# EAGLE library part NCN5150DR2G (library Driver_Transceiver ICs)
IC TRANSCEIVER HALF 1/1 16SOIC Manufacturer's datasheet <https://www.onsemi.com/pub/Collateral/NCN5150-D.PDF>
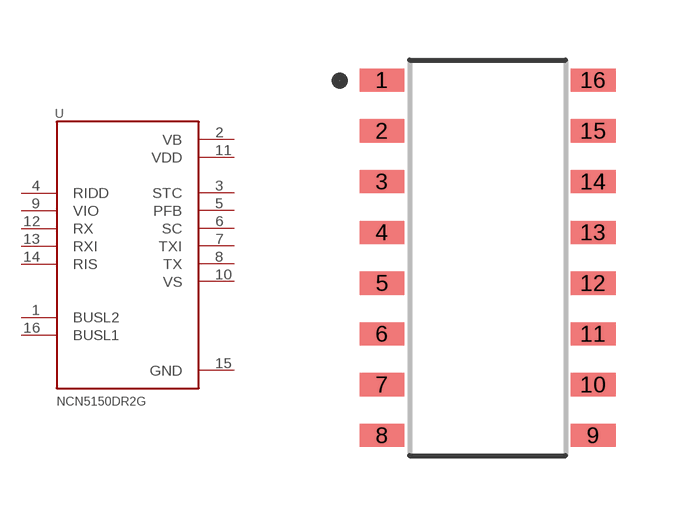
[diagram p1: symbol with the pads of SOIC-16; footprint SOIC-16]

Designator prefix U

## NCN5150DR2G (CREATED_BY: PCBLayout.com; DIGIKEY_PN: NCN5150DR2GOSTR-ND; MANUFACTURER: ON Semiconductor; MPN: NCN5150DR2G; PACKAGE: SOIC-16)  [SOIC-16]
1  BUSL2
2  VB  pwr
3  STC  out
4  RIDD  in
5  PFB  out
6  SC  out
7  TXI  out
8  TX  out
9  VIO  in
10  VS  out
11  VDD  pwr
12  RX  in
13  RXI  in
14  RIS  in
15  GND  pwr
16  BUSL1

## Footprint SOIC-16 (pad centres in mm)
smd 1.12 x 0.58: 1 -2.64,4.445; 2 -2.64,3.175; 3 -2.64,1.905; 4 -2.64,0.635; 5 -2.64,-0.635; 6 -2.64,-1.905; 7 -2.64,-3.175; 8 -2.64,-4.445; 9 2.64,-4.445; 10 2.64,-3.175; 11 2.64,-1.905; 12 2.64,-0.635; 13 2.64,0.635; 14 2.64,1.905; 15 2.64,3.175; 16 2.64,4.445